# Altium footprint library CC2500_Module.PcbLib: 1 footprints
Each footprint in its own frame and in the unit in brackets; x right, y up, seen from the top. Pads: shape width x height; smd on the part's side, far side on the other; paste and mask are expansions set on the pad; w line width, h text height; cw(c..) or ccw(c..) is an arc to the next point about the centre after c.
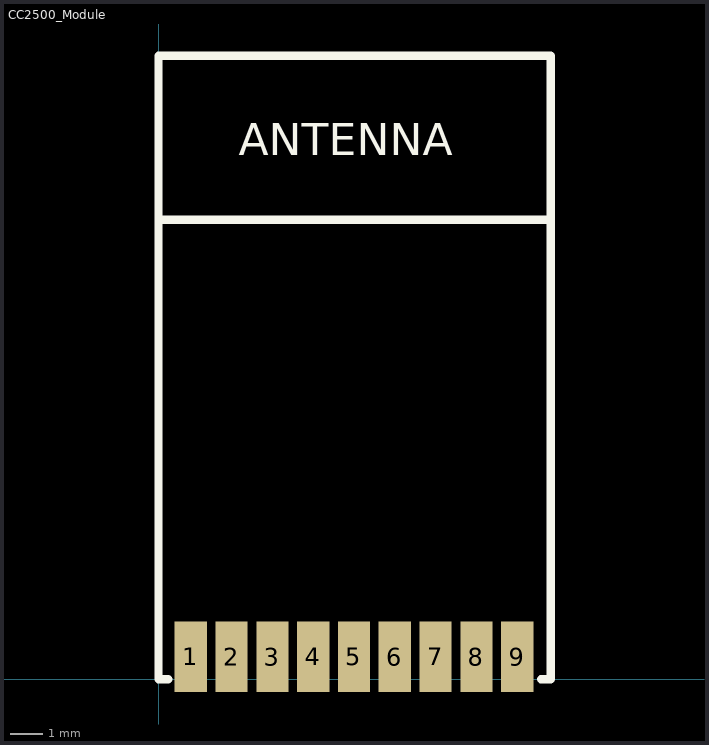
[diagram p0: the footprint, top view; thin cyan lines are the x and y axes]

## CC2500_Module [mm]
pads (9):
  rect 1x2.2 smd: 1(1,0.7) 2(2.27,0.7) 3(3.54,0.7) 4(4.81,0.7) 5(6.08,0.7) 6(7.35,0.7) 7(8.62,0.7) 8(9.89,0.7) 9(11.16,0.7)
Top Overlay:
  lines w0.254: 0,14.3 12.2,14.3 ; 0.3,0 0,0 0,19.4 12.2,19.4 12.2,0 11.9,0
  text "ANTENNA" at 2.5,16.3 h1